# Altium footprint library BGS12SN6E6327XTSA1.PcbLib: 1 footprints
Each footprint in its own frame and in the unit in brackets; x right, y up, seen from the top. Pads: shape width x height; smd on the part's side, far side on the other; paste and mask are expansions set on the pad; w line width, h text height; cw(c..) or ccw(c..) is an arc to the next point about the centre after c.
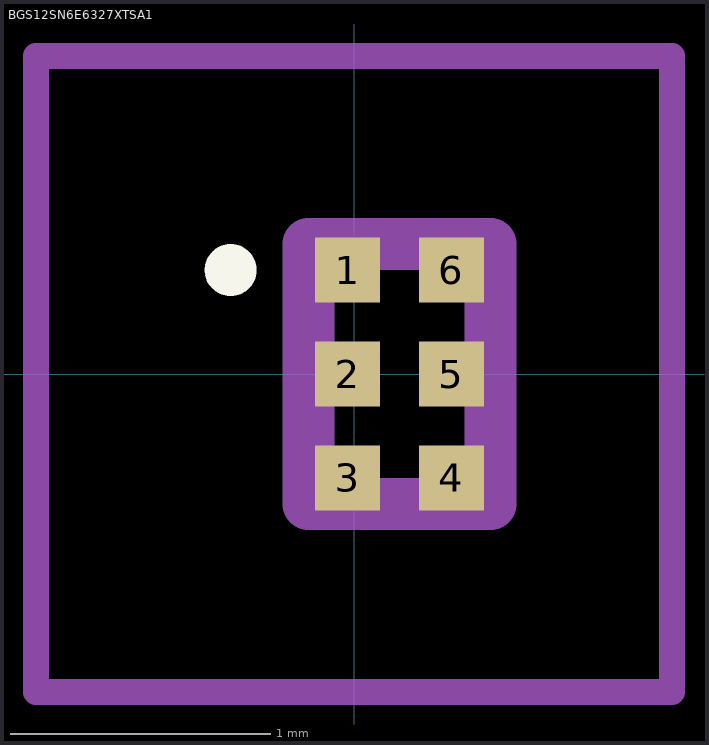
[diagram p0: the footprint, top view; thin cyan lines are the x and y axes]

## BGS12SN6E6327XTSA1 [mm]
pads (6):
  rect 0.25x0.25 smd: 1(-0.025,0.4) 2(-0.025,0) 3(-0.025,-0.4) 4(0.375,-0.4) 5(0.375,0) 6(0.375,0.4)
Top Overlay:
  lines w0.1: -0.525,0.4 ccw(c-0.475,0.4) -0.425,0.4 ; -0.525,0.4 -0.525,0.4 ; -0.525,0.4 cw(c-0.475,0.4) -0.425,0.4 ; -0.425,0.4 -0.425,0.4
Mechanical 15:
  lines w0.2: -0.175,-0.5 0.525,-0.5 0.525,0.5 -0.175,0.5 -0.175,-0.5
Mechanical 20:
  lines w0.1: -1.225,-1.225 1.225,-1.225 1.225,1.225 -1.225,1.225 -1.225,-1.225
3D body "BGA524N6E6327XTSA1.stp": height 5.8, standoff -4.65, extent -10,-3.376 10,3.376